# EAGLE library part ISO7220 (library WarthogRobotics-IC-Special_Function)
ISOLATOR
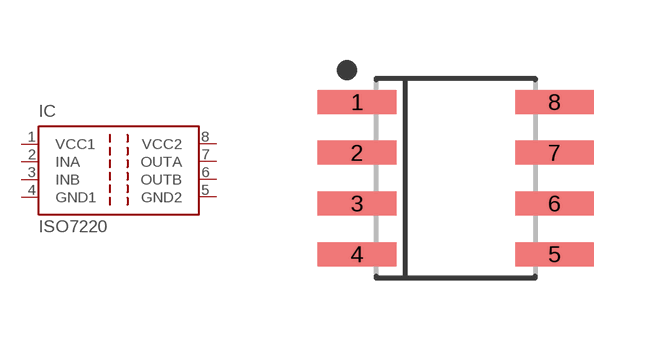
[diagram p3: symbol with the pads of SOIC-8(N); footprint SOIC-8(N)]

Designator prefix IC

## ISO7220  [SOIC-8(N)]
1  VCC1  pwr
2  INA  in
3  INB  in
4  GND1  pwr
5  GND2  pwr
6  OUTB  out
7  OUTA  out
8  VCC2  pwr

## Footprint SOIC-8(N) (pad centres in mm)
8-SOIC, 1.27 mm pitch, 6.00 mm span, 4.91 X 3.90 X 1.75 mm body 8-pin SOIC package with 1.27 mm pitch, 6.00 mm span with body size 4.91 X 3.90 X 1.75 mm
smd 1.967 x 0.599: 1 -2.469,1.905; 2 -2.469,0.635; 3 -2.469,-0.635; 4 -2.469,-1.905; 5 2.469,-1.905; 6 2.469,-0.635; 7 2.469,0.635; 8 2.469,1.905